# EAGLE library part MICRO_ESP32 (library homemade-hardware)
WROOM-32 <https://www.digikey.com/products/en/rf-if-and-rfid/rf-transceiver-modules/872?k=wroom+32&k=&pkeyword=wroom+32&sv=0&v=1528&sf=1&FV=fffc05f8%2Cfffc0770%2C1f140000%2Cffe00368%2Cf60450e%2Cf604b7b%2Cf604b7c&quantity=&ColumnSort=0&page=1&stock=1&pageSize=25>: ESP32 Module
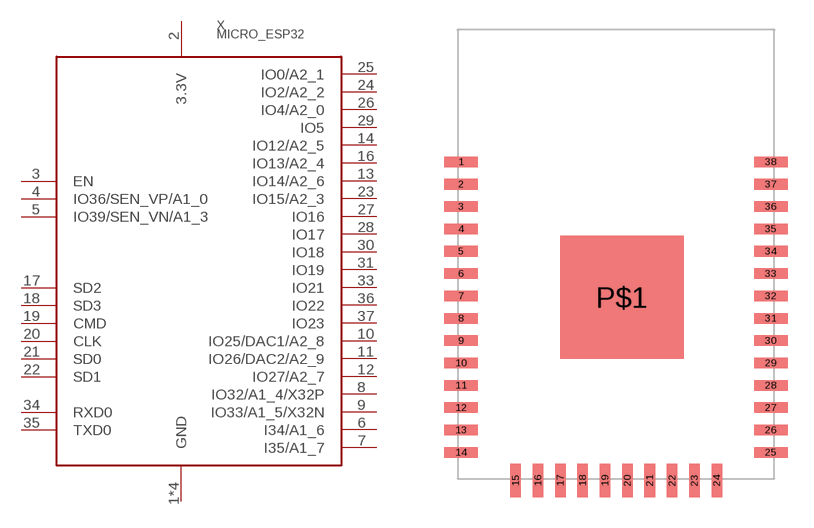
[diagram p14: symbol with the pads of WROOM32; footprint WROOM32]

Designator prefix X

## MICRO_ESP32  [WROOM32]
1  GND  pas
2  3.3V  pas
3  EN  in
4  IO36/SEN_VP/A1_0  pas
5  IO39/SEN_VN/A1_3  pas
6  I34/A1_6
7  I35/A1_7
8  IO32/A1_4/X32P
9  IO33/A1_5/X32N
10  IO25/DAC1/A2_8
11  IO26/DAC2/A2_9
12  IO27/A2_7
13  IO14/A2_6
14  IO12/A2_5
15  GND  pas
16  IO13/A2_4
17  SD2
18  SD3
19  CMD
20  CLK
21  SD0
22  SD1
23  IO15/A2_3
24  IO2/A2_2
25  IO0/A2_1
26  IO4/A2_0
27  IO16
28  IO17
29  IO5
30  IO18
31  IO19
33  IO21
34  RXD0  in
35  TXD0  out
36  IO22
37  IO23
38  GND  pas
P$1  GND  pas

## Footprint WROOM32 (pad centres in mm)
smd 1.9 x 0.6: 1 -8.8,5; 2 -8.8,3.73; 3 -8.8,2.46; 4 -8.8,1.19; 5 -8.8,-0.08; 6 -8.8,-1.35; 7 -8.8,-2.62; 8 -8.8,-3.89; 9 -8.8,-5.16; 10 -8.8,-6.43; 11 -8.8,-7.7; 12 -8.8,-8.97; 13 -8.8,-10.24; 14 -8.8,-11.51; 25 8.8,-11.51; 26 8.8,-10.24; 27 8.8,-8.97; 28 8.8,-7.7; 29 8.8,-6.43; 30 8.8,-5.16; 31 8.8,-3.89; 32 8.8,-2.62; 33 8.8,-1.35; 34 8.8,-0.08; 35 8.8,1.19; 36 8.8,2.46; 37 8.8,3.73; 38 8.8,5
smd 0.6 x 1.9: 15 -5.7,-13.1; 16 -4.43,-13.1; 17 -3.16,-13.1; 18 -1.89,-13.1; 19 -0.62,-13.1; 20 0.65,-13.1; 21 1.92,-13.1; 22 3.19,-13.1; 23 4.46,-13.1; 24 5.73,-13.1
smd 7 x 7: P$1 0.34,-2.7